# Altium footprint library 0805.PcbLib: 2 footprints
Each footprint in its own frame and in the unit in brackets; x right, y up, seen from the top. Pads: shape width x height; smd on the part's side, far side on the other; paste and mask are expansions set on the pad; w line width, h text height; cw(c..) or ccw(c..) is an arc to the next point about the centre after c.
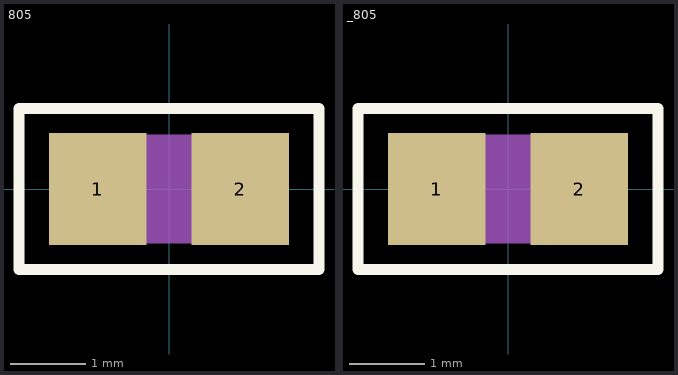
[diagram p0: the footprints below, top view; thin cyan lines are the x and y axes]

## 805 [mm] "0805 (leading 0 omitted due to XLS feature)"
pads (2):
  rect 1.3x1.5 smd: 1(-0.95,0) 2(0.95,0)
Top Overlay:
  lines w0.15: -2,-1.075 2,-1.075 2,1.075 -2,1.075 -2,-1.075
Mechanical 3:
  region: -0.6,0.725 0.6,0.725 0.6,-0.725 -0.6,-0.725
  region: 0.6,0.725 1.1,0.725 1.1,-0.725 0.6,-0.725
  region: -1.1,0.725 -0.6,0.725 -0.6,-0.725 -1.1,-0.725
  text ".Designator" at -2,1.5 h1
3D body: height 0.65, standoff 0, extent -0.6,-0.725 0.6,0.725
3D body: height 0.65, standoff 0, extent -1.1,-0.725 -0.6,0.725
3D body: height 0.65, standoff 0, extent 0.6,-0.725 1.1,0.725

## _805 [mm] "0805 (leading 0 omitted due to XLS feature)"
pads (2):
  rect 1.3x1.5 smd: 1(-0.95,0) 2(0.95,0)
Top Overlay:
  lines w0.15: -2,-1.075 2,-1.075 2,1.075 -2,1.075 -2,-1.075
Mechanical 3:
  region: -0.6,0.725 0.6,0.725 0.6,-0.725 -0.6,-0.725
  region: 0.6,0.725 1.1,0.725 1.1,-0.725 0.6,-0.725
  region: -1.1,0.725 -0.6,0.725 -0.6,-0.725 -1.1,-0.725
  text ".Designator" at -2,1.5 h1
3D body: height 0.65, standoff 0, extent -0.6,-0.725 0.6,0.725
3D body: height 0.65, standoff 0, extent -1.1,-0.725 -0.6,0.725
3D body: height 0.65, standoff 0, extent 0.6,-0.725 1.1,0.725